# EAGLE library part LM2904ST (library ST Microelctronics_By_element14_Batch_1)
Low power dual operational amplifier
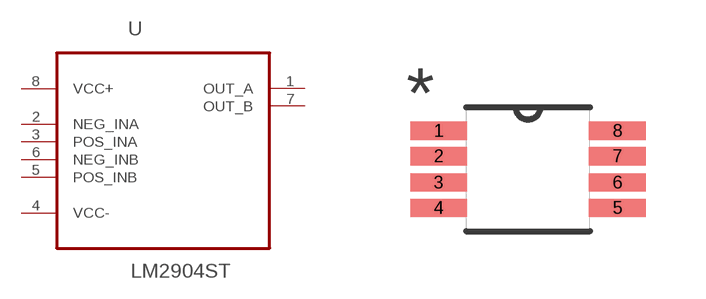
[diagram p104: symbol with the pads of SOP65P490X110-8N; footprint SOP65P490X110-8N]

Designator prefix U

## LM2904ST (MPN: LM2904ST; OC_FARNELL: 1750144; OC_NEWARK: 33R0197; PACKAGE: SOIC-8; SUPPLIER: STMICROELECTRONICS)  [SOP65P490X110-8N]
1  OUT_A  out
2  NEG_INA  in
3  POS_INA  in
4  VCC-  pwr
5  POS_INB  in
6  NEG_INB  in
7  OUT_B  out
8  VCC+  pwr

## Footprint SOP65P490X110-8N (pad centres in mm)
smd 1.422 x 0.457: 1 -2.235,0.965; 2 -2.235,0.33; 3 -2.235,-0.33; 4 -2.235,-0.965; 5 2.235,-0.965; 6 2.235,-0.33; 7 2.235,0.33; 8 2.235,0.965